# EAGLE library part SPARKFUN_DUAL_MOTOR_DRIVER (library BOBs)
SF Dual Motor Driver
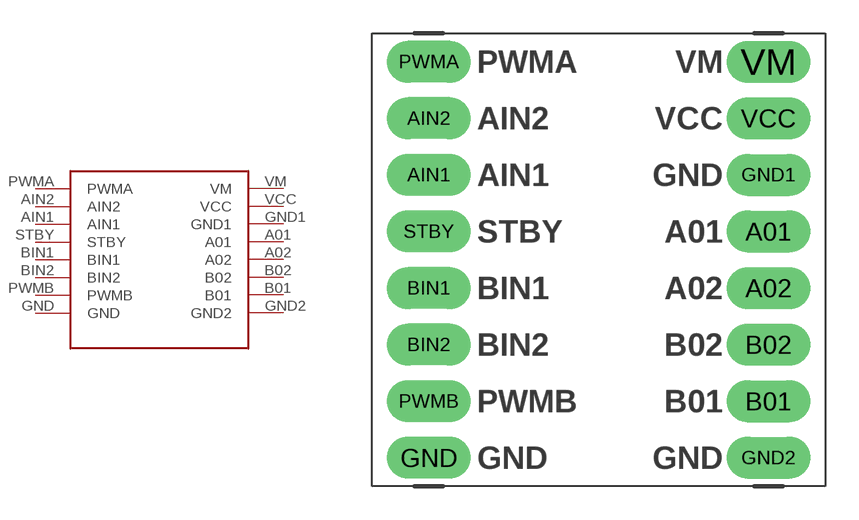
[diagram p13: symbol with the pads of SPARKFUN_DUAL_MOTOR_DRIVER; footprint SPARKFUN_DUAL_MOTOR_DRIVER]

Designator prefix -

## SPARKFUN_DUAL_MOTOR_DRIVER-BOB (DIST: Sparkfun; DISTPN: 9457-assembly; ROUGH_HEIGHT: 15)  [SPARKFUN_DUAL_MOTOR_DRIVER]
A01  A01
A02  A02
AIN1  AIN1
AIN2  AIN2
B01  B01
B02  B02
BIN1  BIN1
BIN2  BIN2
GND  GND
GND1  GND1
GND2  GND2
PWMA  PWMA
PWMB  PWMB
STBY  STBY
VCC  VCC
VM  VM

## Footprint SPARKFUN_DUAL_MOTOR_DRIVER (pad centres in mm)
drill 1.016 pad 1.88 long: A01 7.62,1.27; A02 7.62,-1.27; AIN1 -7.62,3.81; AIN2 -7.62,6.35; B01 7.62,-6.35; B02 7.62,-3.81; BIN1 -7.62,-1.27; BIN2 -7.62,-3.81; GND -7.62,-8.89; GND1 7.62,3.81; GND2 7.62,-8.89; PWMA -7.62,8.89; PWMB -7.62,-6.35; STBY -7.62,1.27; VCC 7.62,6.35; VM 7.62,8.89